# Altium footprint library 10090926P264XLF.PcbLib: 1 footprints
Each footprint in its own frame and in the unit in brackets; x right, y up, seen from the top. Pads: shape width x height; smd on the part's side, far side on the other; paste and mask are expansions set on the pad; w line width, h text height; cw(c..) or ccw(c..) is an arc to the next point about the centre after c.
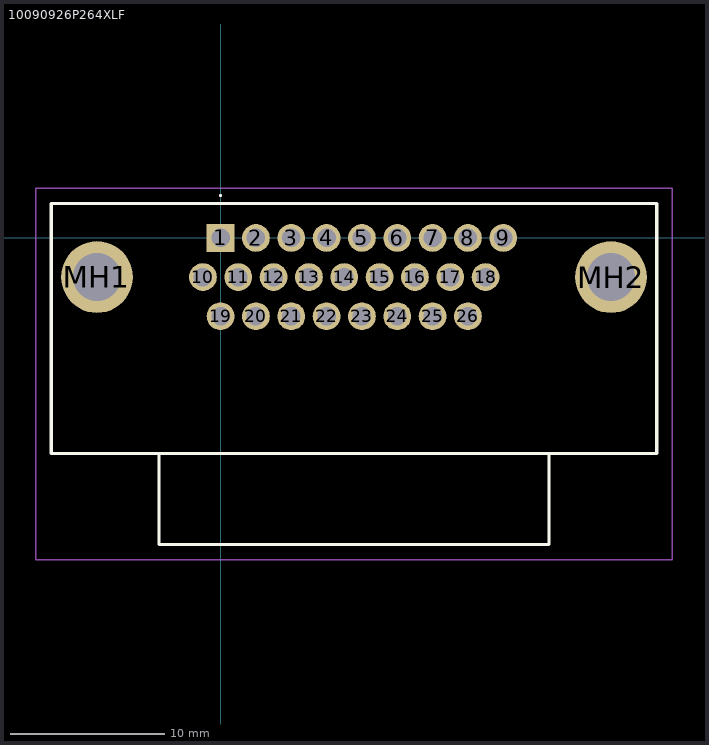
[diagram p0: the footprint, top view; thin cyan lines are the x and y axes]

## 10090926P264XLF [mm]
pads (28):
  rect 1.8x1.8 hole 1.2: 1(0,0)
  round 1.8 hole 1.2: 2(2.29,0) 3(4.58,0) 4(6.87,0) 5(9.16,0) 6(11.45,0) 7(13.74,0) 8(16.03,0) 9(18.32,0) 10(-1.145,-2.54) 11(1.145,-2.54) 12(3.435,-2.54) 13(5.725,-2.54) 14(8.015,-2.54) 15(10.305,-2.54) 16(12.595,-2.54) 17(14.885,-2.54) 18(17.175,-2.54) 19(0,-5.08) 20(2.29,-5.08) 21(4.58,-5.08) 22(6.87,-5.08) 23(9.16,-5.08) 24(11.45,-5.08) 25(13.74,-5.08) 26(16.03,-5.08)
  round 4.65 hole 3.1: MH1(-8.015,-2.54) MH2(25.305,-2.54)
Top Overlay:
  lines w0.1: 0,2.7 cw(c0,2.75) 0,2.8 ; 0,2.7 0,2.7 ; 0,2.7 ccw(c0,2.75) 0,2.8 ; 0,2.8 0,2.8
  lines w0.2: -3.98,-13.97 -3.98,-19.87 21.27,-19.87 21.27,-13.97 ; -10.975,-13.97 28.265,-13.97 28.265,2.23 -10.975,2.23 -10.975,-13.97
Mechanical 15:
  lines w0.1: -3.98,-13.97 -3.98,-19.87 21.27,-19.87 21.27,-13.97 ; -10.975,-13.97 28.265,-13.97 28.265,2.23 -10.975,2.23 -10.975,-13.97
Mechanical 20:
  lines w0.1: -11.975,-20.87 29.265,-20.87 29.265,3.23 -11.975,3.23 -11.975,-20.87